# Altium integrated library MC34063A.IntLib: 1 symbol
Pins are listed as number, name and electrical type; pins without a type are passive.

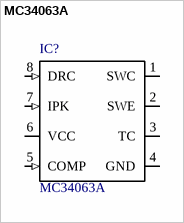
[diagram p0: symbol MC34063A]

## MC34063A
designator IC?
SMD/Our stock Madrid-New & Original; MF: Motorola; Price: None; Package: None; Availability: Unavailable; MP: MC34063A; SnapEDA_Link: https://www.snapeda.com/parts/MC34063A/Motorola/view-part/?ref=snap; Value: *
footprint SO08
pins: 1 SWC (io), 2 SWE (io), 3 TC, 4 GND (power), 5 COMP (in), 6 VCC (power), 7 IPK (in), 8 DRC (in)